# Altium footprint library CONN(2.54mm, 2x17, 34-POS, DUAL-EDGE).PcbLib: 1 footprints
Each footprint in its own frame and in the unit in brackets; x right, y up, seen from the top. Pads: shape width x height; smd on the part's side, far side on the other; paste and mask are expansions set on the pad; w line width, h text height; cw(c..) or ccw(c..) is an arc to the next point about the centre after c.
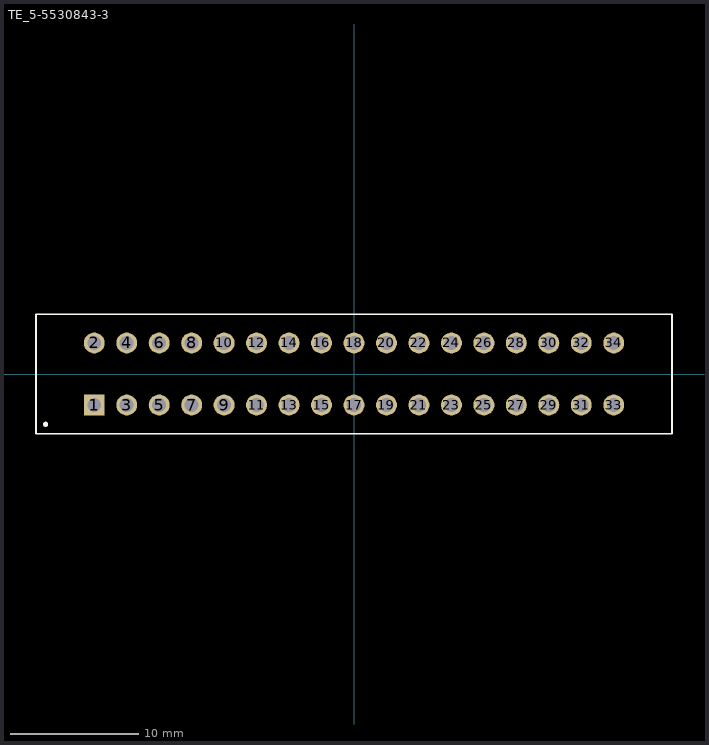
[diagram p0: the footprint, top view; thin cyan lines are the x and y axes]

## TE_5-5530843-3 [mil]
pads (34):
  rect 64.5x64.5 / inner round 64.5 / far side rect 64.5x64.5 hole 43: 1(-800,-95.5)
  round 64.5 hole 43: 2(-800,95.5) 3(-700,-95.5) 4(-700,95.5) 5(-600,-95.5) 6(-600,95.5) 7(-500,-95.5) 8(-500,95.5) 9(-400,-95.5) 10(-400,95.5) 11(-300,-95.5) 12(-300,95.5) 13(-200,-95.5) 14(-200,95.5) 15(-100,-95.5) 16(-100,95.5) 17(0,-95.5) 18(0,95.5) 19(100,-95.5) 20(100,95.5) 21(200,-95.5) 22(200,95.5) 23(300,-95.5) 24(300,95.5) 25(400,-95.5) 26(400,95.5) 27(500,-95.5) 28(500,95.5) 29(600,-95.5) 30(600,95.5) 31(700,-95.5) 32(700,95.5) 33(800,-95.5) 34(800,95.5)
Top Overlay:
  circle w10: c-950,-155 r3
  lines w6: -980,-184 980,-184 980,184 -980,184 -980,-184
3D body "5-5530843-3.STEP": height 606, standoff -129, extent -980,-184 980,184